# Altium footprint library AMP Footprints.PcbLib: 903 footprints (part 12 of 58)
Each footprint in its own frame and in the unit in brackets; x right, y up, seen from the top. Pads: shape width x height; smd on the part's side, far side on the other; paste and mask are expansions set on the pad; w line width, h text height; cw(c..) or ccw(c..) is an arc to the next point about the centre after c.
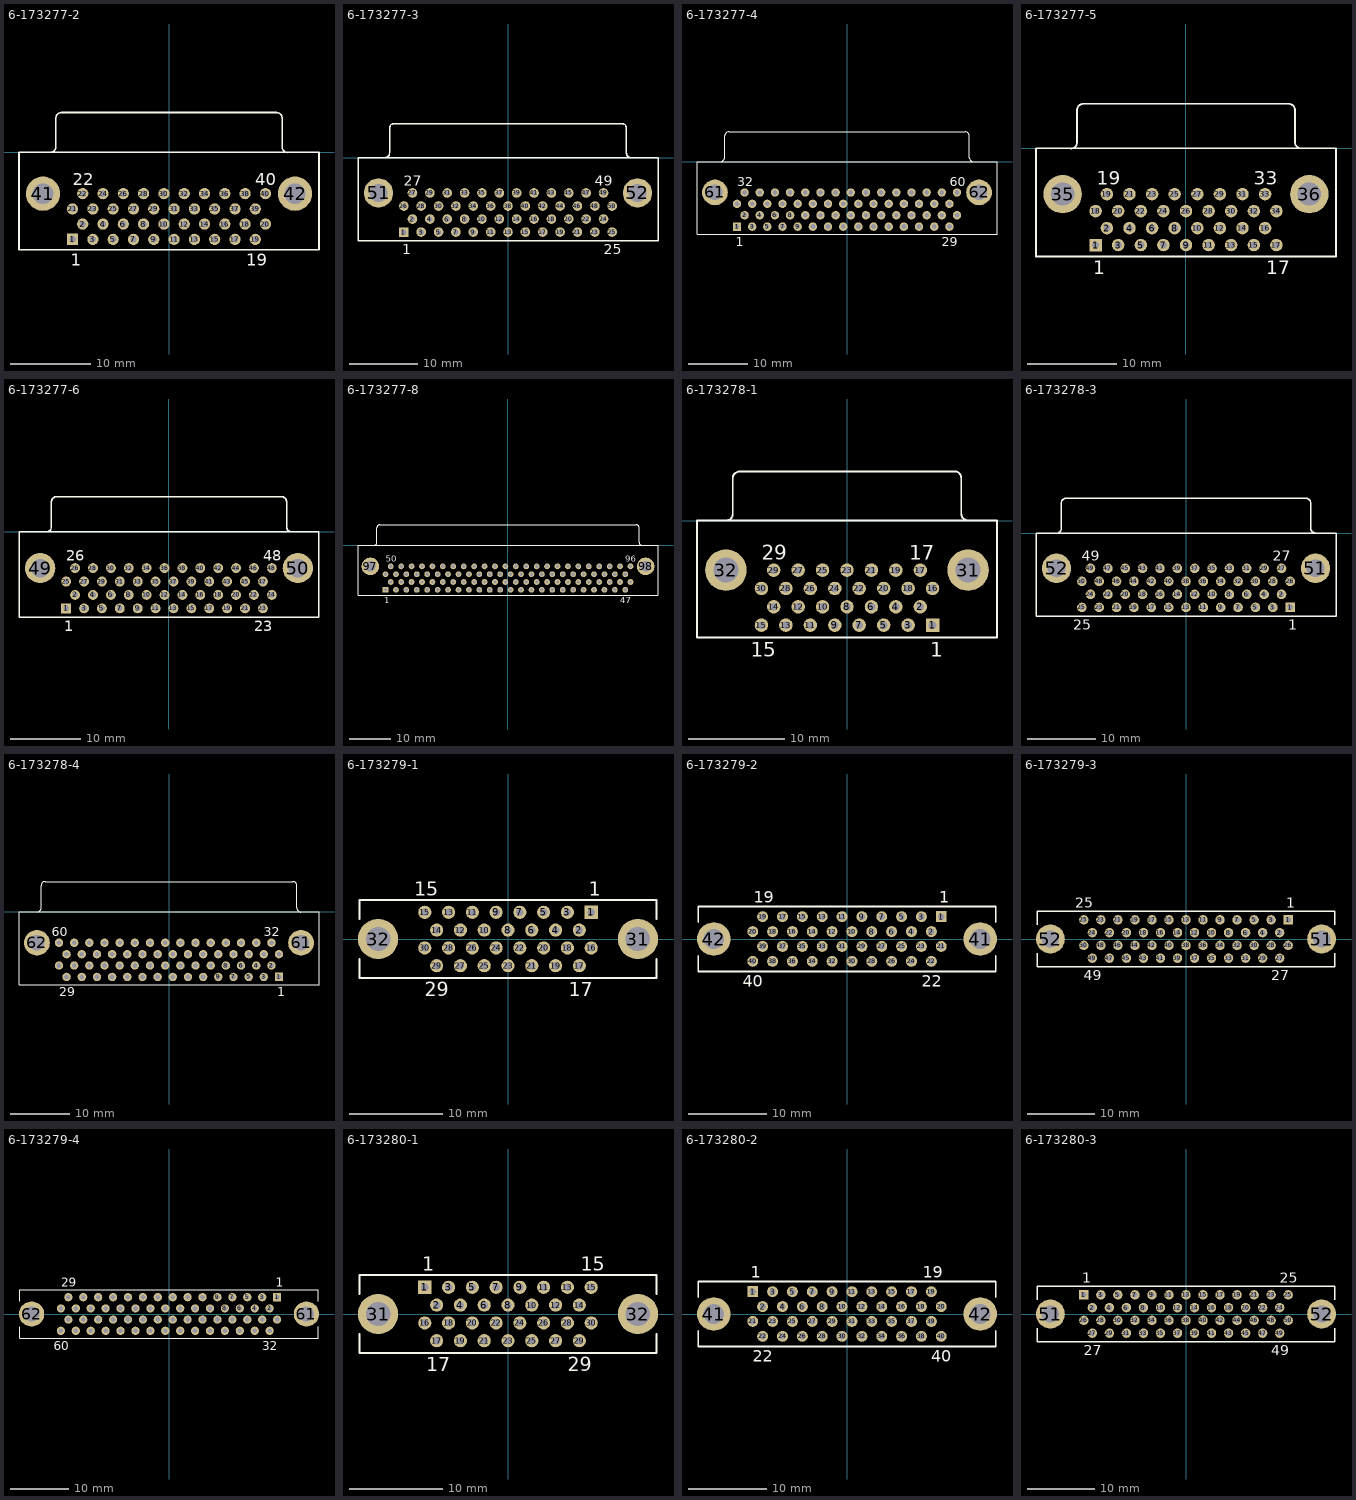
[diagram p11: the footprints below, top view; thin cyan lines are the x and y axes]

## 6-173277-2 [mm] "Connector; D Subminiature 050 Series; 40 Position; Right Angle"
height 8.1
pads (42):
  rect 1.4x1.4 hole 0.8: 1(-12.065,-10.87)
  round 1.4 hole 0.8: 2(-10.795,-8.965) 3(-9.525,-10.87) 4(-8.255,-8.965) 5(-6.985,-10.87) 6(-5.715,-8.965) 7(-4.445,-10.87) 8(-3.175,-8.965) 9(-1.905,-10.87) 10(-0.635,-8.965) 11(0.635,-10.87) 12(1.905,-8.965) 13(3.175,-10.87) 14(4.445,-8.965) 15(5.715,-10.87) 16(6.985,-8.965) 17(8.255,-10.87) 18(9.525,-8.965) 19(10.795,-10.87) 20(12.065,-8.965) 21(-12.065,-7.06) 22(-10.795,-5.155) 23(-9.525,-7.06) 24(-8.255,-5.155) 25(-6.985,-7.06) 26(-5.715,-5.155) 27(-4.445,-7.06) 28(-3.175,-5.155) 29(-1.905,-7.06) 30(-0.635,-5.155) 31(0.635,-7.06) 32(1.905,-5.155) 33(3.175,-7.06) 34(4.445,-5.155) 35(5.715,-7.06) 36(6.985,-5.155) 37(8.255,-7.06) 38(9.525,-5.155) 39(10.795,-7.06) 40(12.065,-5.155)
  round 4.3 hole 2.6: 41(-15.765,-5.155) 42(15.765,-5.155)
Top Overlay:
  lines w0.2: -14.845,0.02 ccw(c-14.845,0.715) -14.15,0.715 -14.15,4.305 cw(c-13.455,4.305) -13.455,5 ; -13.5,5 13.5,5 ; 13.455,5 cw(c13.455,4.305) 14.15,4.305 14.15,0.687 ccw(c14.845,0.687) 14.845,-0.008 ; -18.765,-12.17 -18.765,0 18.765,0 18.765,-12.17 -18.765,-12.17
  text "19" at 9.67,-14.145 h1.5
  text "1" at -12.315,-14.145 h1.5
  text "22" at -12.045,-4.08 h1.5
  text "40" at 10.815,-4.08 h1.5

## 6-173277-3 [mm] "Connector; D Subminiature 050 Series; 50 Position; Right Angle"
height 8.1
pads (52):
  rect 1.4x1.4 hole 0.8: 1(-15.24,-10.87)
  round 1.4 hole 0.8: 2(-13.97,-8.965) 3(-12.7,-10.87) 4(-11.43,-8.965) 5(-10.16,-10.87) 6(-8.89,-8.965) 7(-7.62,-10.87) 8(-6.35,-8.965) 9(-5.08,-10.87) 10(-3.81,-8.965) 11(-2.54,-10.87) 12(-1.27,-8.965) 13(0,-10.87) 14(1.27,-8.965) 15(2.54,-10.87) 16(3.81,-8.965) 17(5.08,-10.87) 18(6.35,-8.965) 19(7.62,-10.87) 20(8.89,-8.965) 21(10.16,-10.87) 22(11.43,-8.965) 23(12.7,-10.87) 24(13.97,-8.965) 25(15.24,-10.87) 26(-15.24,-7.06) 27(-13.97,-5.155) 28(-12.7,-7.06) 29(-11.43,-5.155) 30(-10.16,-7.06) 31(-8.89,-5.155) 32(-7.62,-7.06) 33(-6.35,-5.155) 34(-5.08,-7.06) 35(-3.81,-5.155) 36(-2.54,-7.06) 37(-1.27,-5.155) 38(0,-7.06) 39(1.27,-5.155) 40(2.54,-7.06) 41(3.81,-5.155) 42(5.08,-7.06) 43(6.35,-5.155) 44(7.62,-7.06) 45(8.89,-5.155) 46(10.16,-7.06) 47(11.43,-5.155) 48(12.7,-7.06) 49(13.97,-5.155) 50(15.24,-7.06)
  round 4.3 hole 2.6: 51(-18.94,-5.155) 52(18.94,-5.155)
Top Overlay:
  lines w0.2: -18.02,0.02 ccw(c-18.02,0.715) -17.325,0.715 -17.325,4.305 cw(c-16.63,4.305) -16.63,5 16.68,5 ; 16.63,5 cw(c16.63,4.305) 17.325,4.305 17.325,0.687 ccw(c18.02,0.687) 18.02,-0.008 ; -21.94,-12.17 21.94,-12.17 21.94,0 -21.94,0 -21.94,-12.17
  text "25" at 13.99,-14.145 h1.5
  text "1" at -15.49,-14.145 h1.5
  text "49" at 12.72,-4.08 h1.5
  text "27" at -15.22,-4.08 h1.5

## 6-173277-4 [mm] "Connector; D Subminiature 050 Series; 60 Position; Right Angle"
height 8.1
pads (62):
  rect 1.4x1.4 hole 0.8: 1(-18.415,-10.87)
  round 1.4 hole 0.8: 2(-17.145,-8.965) 3(-15.875,-10.87) 4(-14.605,-8.965) 5(-13.335,-10.87) 6(-12.065,-8.965) 7(-10.795,-10.87) 8(-9.525,-8.965) 9(-8.255,-10.87) 10(-6.985,-8.965) 11(-5.715,-10.87) 12(-4.445,-8.965) 13(-3.175,-10.87) 14(-1.905,-8.965) 15(-0.635,-10.87) 16(0.635,-8.965) 17(1.905,-10.87) 18(3.175,-8.965) 19(4.445,-10.87) 20(5.715,-8.965) 21(6.985,-10.87) 22(8.255,-8.965) 23(9.525,-10.87) 24(10.795,-8.965) 25(12.065,-10.87) 26(13.335,-8.965) 27(14.605,-10.87) 28(15.875,-8.965) 29(17.145,-10.87) 30(18.415,-8.965) 31(-18.415,-7.06) 32(-17.145,-5.155) 33(-15.875,-7.06) 34(-14.605,-5.155) 35(-13.335,-7.06) 36(-12.065,-5.155) 37(-10.795,-7.06) 38(-9.525,-5.155) 39(-8.255,-7.06) 40(-6.985,-5.155) 41(-5.715,-7.06) 42(-4.445,-5.155) 43(-3.175,-7.06) 44(-1.905,-5.155) 45(-0.635,-7.06) 46(0.635,-5.155) 47(1.905,-7.06) 48(3.175,-5.155) 49(4.445,-7.06) 50(5.715,-5.155) 51(6.985,-7.06) 52(8.255,-5.155) 53(9.525,-7.06) 54(10.795,-5.155) 55(12.065,-7.06) 56(13.335,-5.155) 57(14.605,-7.06) 58(15.875,-5.155) 59(17.145,-7.06) 60(18.415,-5.155)
  round 4.3 hole 2.6: 61(-22.115,-5.155) 62(22.115,-5.155)
Top Overlay:
  lines w0.2: -21.195,0.02 ccw(c-21.195,0.715) -20.5,0.715 -20.5,4.305 cw(c-19.805,4.305) -19.805,5 19.805,5 cw(c19.805,4.305) 20.5,4.305 20.5,0.687 ccw(c21.195,0.687) 21.195,-0.008 ; -25.115,-12.17 -25.115,0 25.115,0 25.115,-12.17 -25.115,-12.17
  text "32" at -18.395,-4.08 h1.5
  text "1" at -18.665,-14.145 h1.5
  text "29" at 15.895,-14.145 h1.5
  text "60" at 17.165,-4.08 h1.5

## 6-173277-5 [mm] "Connector; D Subminiature 050 Series; 34 Position; Right Angle"
height 8.1
pads (36):
  rect 1.4x1.4 hole 0.8: 1(-10.16,-10.87)
  round 1.4 hole 0.8: 2(-8.89,-8.965) 3(-7.62,-10.87) 4(-6.35,-8.965) 5(-5.08,-10.87) 6(-3.81,-8.965) 7(-2.54,-10.87) 8(-1.27,-8.965) 9(0,-10.87) 10(1.27,-8.965) 11(2.54,-10.87) 12(3.81,-8.965) 13(5.08,-10.87) 14(6.35,-8.965) 15(7.62,-10.87) 16(8.89,-8.965) 17(10.16,-10.87) 18(-10.16,-7.06) 19(-8.89,-5.155) 20(-7.62,-7.06) 21(-6.35,-5.155) 22(-5.08,-7.06) 23(-3.81,-5.155) 24(-2.54,-7.06) 25(-1.27,-5.155) 26(0,-7.06) 27(1.27,-5.155) 28(2.54,-7.06) 29(3.81,-5.155) 30(5.08,-7.06) 31(6.35,-5.155) 32(7.62,-7.06) 33(8.89,-5.155) 34(10.16,-7.06)
  round 4.3 hole 2.6: 35(-13.86,-5.155) 36(13.86,-5.155)
Top Overlay:
  lines w0.2: -12.94,-0.02 ccw(c-12.94,0.675) -12.245,0.675 -12.245,4.305 cw(c-11.55,4.305) -11.55,5 11.5,5 ; 11.55,5 cw(c11.55,4.305) 12.245,4.305 12.245,0.695 ccw(c12.94,0.695) 12.94,0 ; -16.86,-12.17 -16.86,0 16.86,0 16.86,-12.17 -16.86,-12.17
  text "17" at 9.035,-14.145 h1.5
  text "1" at -10.41,-14.145 h1.5
  text "33" at 7.64,-4.08 h1.5
  text "19" at -10.015,-4.08 h1.5

## 6-173277-6 [mm] "Connector; D Subminiature 050 Series; 48 Position; Right Angle"
height 8.1
pads (50):
  rect 1.4x1.4 hole 0.8: 1(-14.605,-10.87)
  round 1.4 hole 0.8: 2(-13.335,-8.965) 3(-12.065,-10.87) 4(-10.795,-8.965) 5(-9.525,-10.87) 6(-8.255,-8.965) 7(-6.985,-10.87) 8(-5.715,-8.965) 9(-4.445,-10.87) 10(-3.175,-8.965) 11(-1.905,-10.87) 12(-0.635,-8.965) 13(0.635,-10.87) 14(1.905,-8.965) 15(3.175,-10.87) 16(4.445,-8.965) 17(5.715,-10.87) 18(6.985,-8.965) 19(8.255,-10.87) 20(9.525,-8.965) 21(10.795,-10.87) 22(12.065,-8.965) 23(13.335,-10.87) 24(14.605,-8.965) 25(-14.605,-7.06) 26(-13.335,-5.155) 27(-12.065,-7.06) 28(-10.795,-5.155) 29(-9.525,-7.06) 30(-8.255,-5.155) 31(-6.985,-7.06) 32(-5.715,-5.155) 33(-4.445,-7.06) 34(-3.175,-5.155) 35(-1.905,-7.06) 36(-0.635,-5.155) 37(0.635,-7.06) 38(1.905,-5.155) 39(3.175,-7.06) 40(4.445,-5.155) 41(5.715,-7.06) 42(6.985,-5.155) 43(8.255,-7.06) 44(9.525,-5.155) 45(10.795,-7.06) 46(12.065,-5.155) 47(13.335,-7.06) 48(14.605,-5.155)
  round 4.3 hole 2.6: 49(-18.305,-5.155) 50(18.305,-5.155)
Top Overlay:
  lines w0.2: -17.385,0.002 ccw(c-17.385,0.697) -16.69,0.697 -16.69,4.305 cw(c-15.995,4.305) -15.995,5 ; -16,5 16,5 ; 15.995,5 cw(c15.995,4.305) 16.69,4.305 16.69,0.717 ccw(c17.385,0.717) 17.385,0.022 ; -21.305,-12.17 21.305,-12.17 21.305,0 -21.305,0 -21.305,-12.17
  text "26" at -14.585,-4.08 h1.5
  text "48" at 13.355,-4.08 h1.5
  text "1" at -14.855,-14.145 h1.5
  text "23" at 12.085,-14.145 h1.5

## 6-173277-8 [mm] "Connector; D Subminiature 050 Series; 96 Position; Right Angle"
height 8.1
pads (98):
  rect 1.4x1.4 hole 0.8: 1(-29.845,-10.87)
  round 1.4 hole 0.8: 2(-28.575,-8.965) 3(-27.305,-10.87) 4(-26.035,-8.965) 5(-24.765,-10.87) 6(-23.495,-8.965) 7(-22.225,-10.87) 8(-20.955,-8.965) 9(-19.685,-10.87) 10(-18.415,-8.965) 11(-17.145,-10.87) 12(-15.875,-8.965) 13(-14.605,-10.87) 14(-13.335,-8.965) 15(-12.065,-10.87) 16(-10.795,-8.965) 17(-9.525,-10.87) 18(-8.255,-8.965) 19(-6.985,-10.87) 20(-5.715,-8.965) 21(-4.445,-10.87) 22(-3.175,-8.965) 23(-1.905,-10.87) 24(-0.635,-8.965) 25(0.635,-10.87) 26(1.905,-8.965) 27(3.175,-10.87) 28(4.445,-8.965) 29(5.715,-10.87) 30(6.985,-8.965) 31(8.255,-10.87) 32(9.525,-8.965) 33(10.795,-10.87) 34(12.065,-8.965) 35(13.335,-10.87) 36(14.605,-8.965) 37(15.875,-10.87) 38(17.145,-8.965) 39(18.415,-10.87) 40(19.685,-8.965) 41(20.955,-10.87) 42(22.225,-8.965) 43(23.495,-10.87) 44(24.765,-8.965) 45(26.035,-10.87) 46(27.305,-8.965) 47(28.575,-10.87) 48(29.845,-8.965) 49(-29.845,-7.06) 50(-28.575,-5.155) 51(-27.305,-7.06) 52(-26.035,-5.155) 53(-24.765,-7.06) 54(-23.495,-5.155) 55(-22.225,-7.06) 56(-20.955,-5.155) 57(-19.685,-7.06) 58(-18.415,-5.155) 59(-17.145,-7.06) 60(-15.875,-5.155) 61(-14.605,-7.06) 62(-13.335,-5.155) 63(-12.065,-7.06) 64(-10.795,-5.155) 65(-9.525,-7.06) 66(-8.255,-5.155) 67(-6.985,-7.06) 68(-5.715,-5.155) 69(-4.445,-7.06) 70(-3.175,-5.155) 71(-1.905,-7.06) 72(-0.635,-5.155) 73(0.635,-7.06) 74(1.905,-5.155) 75(3.175,-7.06) 76(4.445,-5.155) 77(5.715,-7.06) 78(6.985,-5.155) 79(8.255,-7.06) 80(9.525,-5.155) 81(10.795,-7.06) 82(12.065,-5.155) 83(13.335,-7.06) 84(14.605,-5.155) 85(15.875,-7.06) 86(17.145,-5.155) 87(18.415,-7.06) 88(19.685,-5.155) 89(20.955,-7.06) 90(22.225,-5.155) 91(23.495,-7.06) 92(24.765,-5.155) 93(26.035,-7.06) 94(27.305,-5.155) 95(28.575,-7.06) 96(29.845,-5.155)
  round 4.3 hole 2.6: 97(-33.545,-5.155) 98(33.545,-5.155)
Top Overlay:
  lines w0.2: -32.625,0.002 ccw(c-32.625,0.697) -31.93,0.697 -31.93,4.305 cw(c-31.235,4.305) -31.235,5 31.3,5 ; 31.235,5 cw(c31.235,4.305) 31.93,4.305 31.93,0.7 ccw(c32.625,0.7) 32.625,0.005 ; -36.545,-12.17 -36.545,0 36.545,0 36.545,-12.17 -36.545,-12.17
  text "50" at -29.825,-4.08 h1.5
  text "96" at 28.595,-4.08 h1.5
  text "47" at 27.325,-14.145 h1.5
  text "1" at -30.095,-14.145 h1.5

## 6-173278-1 [mm] "Connector; D Subminiature 050 Series; 30 Position; Right Angle"
height 8.1
pads (32):
  rect 1.4x1.4 hole 0.8: 1(8.89,-10.87)
  round 1.4 hole 0.8: 2(7.62,-8.965) 3(6.35,-10.87) 4(5.08,-8.965) 5(3.81,-10.87) 6(2.54,-8.965) 7(1.27,-10.87) 8(0,-8.965) 9(-1.27,-10.87) 10(-2.54,-8.965) 11(-3.81,-10.87) 12(-5.08,-8.965) 13(-6.35,-10.87) 14(-7.62,-8.965) 15(-8.89,-10.87) 16(8.89,-7.06) 17(7.62,-5.155) 18(6.35,-7.06) 19(5.08,-5.155) 20(3.81,-7.06) 21(2.54,-5.155) 22(1.27,-7.06) 23(0,-5.155) 24(-1.27,-7.06) 25(-2.54,-5.155) 26(-3.81,-7.06) 27(-5.08,-5.155) 28(-6.35,-7.06) 29(-7.62,-5.155) 30(-8.89,-7.06)
  round 4.3 hole 2.6: 31(12.59,-5.155) 32(-12.59,-5.155)
Top Overlay:
  lines w0.2: -12.57,0 ccw(c-12.57,0.695) -11.875,0.695 -11.875,4.395 cw(c-11.18,4.395) -11.18,5.09 ; -11.18,5.1 11.185,5.1 ; 11.18,5.11 cw(c11.18,4.415) 11.875,4.415 11.875,0.715 ccw(c12.57,0.715) 12.57,0.02 ; -15.59,-12.17 15.59,-12.17 15.59,0 -15.59,0 -15.59,-12.17
  text "15" at -10.015,-14.145 h1.5
  text "1" at 8.64,-14.145 h1.5
  text "29" at -8.87,-4.08 h1.5
  text "17" at 6.495,-4.08 h1.5

## 6-173278-3 [mm] "Connector; D Subminiature 050 Series; 50 Position; Right Angle"
height 8.1
pads (52):
  rect 1.4x1.4 hole 0.8: 1(15.24,-10.87)
  round 1.4 hole 0.8: 2(13.97,-8.965) 3(12.7,-10.87) 4(11.43,-8.965) 5(10.16,-10.87) 6(8.89,-8.965) 7(7.62,-10.87) 8(6.35,-8.965) 9(5.08,-10.87) 10(3.81,-8.965) 11(2.54,-10.87) 12(1.27,-8.965) 13(0,-10.87) 14(-1.27,-8.965) 15(-2.54,-10.87) 16(-3.81,-8.965) 17(-5.08,-10.87) 18(-6.35,-8.965) 19(-7.62,-10.87) 20(-8.89,-8.965) 21(-10.16,-10.87) 22(-11.43,-8.965) 23(-12.7,-10.87) 24(-13.97,-8.965) 25(-15.24,-10.87) 26(15.24,-7.06) 27(13.97,-5.155) 28(12.7,-7.06) 29(11.43,-5.155) 30(10.16,-7.06) 31(8.89,-5.155) 32(7.62,-7.06) 33(6.35,-5.155) 34(5.08,-7.06) 35(3.81,-5.155) 36(2.54,-7.06) 37(1.27,-5.155) 38(0,-7.06) 39(-1.27,-5.155) 40(-2.54,-7.06) 41(-3.81,-5.155) 42(-5.08,-7.06) 43(-6.35,-5.155) 44(-7.62,-7.06) 45(-8.89,-5.155) 46(-10.16,-7.06) 47(-11.43,-5.155) 48(-12.7,-7.06) 49(-13.97,-5.155) 50(-15.24,-7.06)
  round 4.3 hole 2.6: 51(18.94,-5.155) 52(-18.94,-5.155)
Top Overlay:
  lines w0.2: -18.92,-0.008 ccw(c-18.92,0.687) -18.225,0.687 -18.225,4.42 ; -18.22,4.405 cw(c-17.525,4.405) -17.525,5.1 17.525,5.1 cw(c17.525,4.405) 18.22,4.405 ; 18.225,0.687 18.225,4.42 ; 18.225,0.715 ccw(c18.92,0.715) 18.92,0.02 ; -21.94,-12.17 -21.94,0 21.94,0 21.94,-12.17 -21.94,-12.17
  text "27" at 12.72,-4.08 h1.5
  text "49" at -15.22,-4.08 h1.5
  text "1" at 14.99,-14.145 h1.5
  text "25" at -16.49,-14.145 h1.5

## 6-173278-4 [mm] "Connector; D Subminiature 050 Series; 60 Position; Right Angle"
height 8.1
pads (62):
  rect 1.4x1.4 hole 0.8: 1(18.415,-10.87)
  round 1.4 hole 0.8: 2(17.145,-8.965) 3(15.875,-10.87) 4(14.605,-8.965) 5(13.335,-10.87) 6(12.065,-8.965) 7(10.795,-10.87) 8(9.525,-8.965) 9(8.255,-10.87) 10(6.985,-8.965) 11(5.715,-10.87) 12(4.445,-8.965) 13(3.175,-10.87) 14(1.905,-8.965) 15(0.635,-10.87) 16(-0.635,-8.965) 17(-1.905,-10.87) 18(-3.175,-8.965) 19(-4.445,-10.87) 20(-5.715,-8.965) 21(-6.985,-10.87) 22(-8.255,-8.965) 23(-9.525,-10.87) 24(-10.795,-8.965) 25(-12.065,-10.87) 26(-13.335,-8.965) 27(-14.605,-10.87) 28(-15.875,-8.965) 29(-17.145,-10.87) 30(-18.415,-8.965) 31(18.415,-7.06) 32(17.145,-5.155) 33(15.875,-7.06) 34(14.605,-5.155) 35(13.335,-7.06) 36(12.065,-5.155) 37(10.795,-7.06) 38(9.525,-5.155) 39(8.255,-7.06) 40(6.985,-5.155) 41(5.715,-7.06) 42(4.445,-5.155) 43(3.175,-7.06) 44(1.905,-5.155) 45(0.635,-7.06) 46(-0.635,-5.155) 47(-1.905,-7.06) 48(-3.175,-5.155) 49(-4.445,-7.06) 50(-5.715,-5.155) 51(-6.985,-7.06) 52(-8.255,-5.155) 53(-9.525,-7.06) 54(-10.795,-5.155) 55(-12.065,-7.06) 56(-13.335,-5.155) 57(-14.605,-7.06) 58(-15.875,-5.155) 59(-17.145,-7.06) 60(-18.415,-5.155)
  round 4.3 hole 2.6: 61(22.115,-5.155) 62(-22.115,-5.155)
Top Overlay:
  lines w0.2: -22.095,-0.008 ccw(c-22.095,0.687) -21.4,0.687 -21.4,4.405 cw(c-20.705,4.405) -20.705,5.1 20.8,5.1 ; 20.705,5.1 cw(c20.705,4.405) 21.4,4.405 21.4,0.67 ccw(c22.095,0.67) 22.095,-0.025 ; -25.115,-12.17 -25.115,0 25.115,0 25.115,-12.17 -25.115,-12.17
  text "32" at 15.895,-4.08 h1.5
  text "60" at -19.665,-4.08 h1.5
  text "29" at -18.395,-14.145 h1.5
  text "1" at 18.165,-14.145 h1.5

## 6-173279-1 [mm] "Connector; D Subminiature 050 Series; 30 Position; Vertical"
height 7.7
pads (32):
  rect 1.4x1.4 hole 0.8: 1(8.89,2.857)
  round 1.4 hole 0.8: 2(7.62,0.953) 3(6.35,2.857) 4(5.08,0.953) 5(3.81,2.857) 6(2.54,0.953) 7(1.27,2.857) 8(0,0.953) 9(-1.27,2.857) 10(-2.54,0.953) 11(-3.81,2.857) 12(-5.08,0.953) 13(-6.35,2.857) 14(-7.62,0.953) 15(-8.89,2.857) 16(8.89,-0.953) 17(7.62,-2.857) 18(6.35,-0.953) 19(5.08,-2.857) 20(3.81,-0.953) 21(2.54,-2.857) 22(1.27,-0.953) 23(0,-2.857) 24(-1.27,-0.953) 25(-2.54,-2.857) 26(-3.81,-0.953) 27(-5.08,-2.857) 28(-6.35,-0.953) 29(-7.62,-2.857) 30(-8.89,-0.953)
  round 4.3 hole 2.6: 31(13.875,0) 32(-13.875,0)
Top Overlay:
  lines w0.2: -15.875,-2.146 -15.875,-4.157 15.875,-4.157 15.875,-2.146 ; -15.875,2.146 -15.875,4.157 15.875,4.157 15.875,2.146
  text "17" at 6.495,-6.132 h1.5
  text "29" at -8.87,-6.132 h1.5
  text "15" at -10.015,4.633 h1.5
  text "1" at 8.64,4.633 h1.5

## 6-173279-2 [mm] "Connector; D Subminiature 050 Series; 40 Position; Vertical"
height 7.7
pads (42):
  rect 1.4x1.4 hole 0.8: 1(12.065,2.857)
  round 1.4 hole 0.8: 2(10.795,0.953) 3(9.525,2.857) 4(8.255,0.953) 5(6.985,2.857) 6(5.715,0.953) 7(4.445,2.857) 8(3.175,0.953) 9(1.905,2.857) 10(0.635,0.953) 11(-0.635,2.857) 12(-1.905,0.953) 13(-3.175,2.857) 14(-4.445,0.953) 15(-5.715,2.857) 16(-6.985,0.953) 17(-8.255,2.857) 18(-9.525,0.953) 19(-10.795,2.857) 20(-12.065,0.953) 21(12.065,-0.953) 22(10.795,-2.857) 23(9.525,-0.953) 24(8.255,-2.857) 25(6.985,-0.953) 26(5.715,-2.857) 27(4.445,-0.953) 28(3.175,-2.857) 29(1.905,-0.953) 30(0.635,-2.857) 31(-0.635,-0.953) 32(-1.905,-2.857) 33(-3.175,-0.953) 34(-4.445,-2.857) 35(-5.715,-0.953) 36(-6.985,-2.857) 37(-8.255,-0.953) 38(-9.525,-2.857) 39(-10.795,-0.953) 40(-12.065,-2.857)
  round 4.3 hole 2.6: 41(17.05,0) 42(-17.05,0)
Top Overlay:
  lines w0.2: -19.05,-2.146 -19.05,-4.157 19.05,-4.157 19.05,-2.146 ; -19.05,2.146 -19.05,4.157 19.05,4.157 19.05,2.146
  text "22" at 9.545,-6.132 h1.5
  text "40" at -13.315,-6.132 h1.5
  text "19" at -11.92,4.633 h1.5
  text "1" at 11.815,4.633 h1.5

## 6-173279-3 [mm] "Connector; D Subminiature 050 Series; 50 Position; Vertical"
height 7.7
pads (52):
  rect 1.4x1.4 hole 0.8: 1(15.24,2.857)
  round 1.4 hole 0.8: 2(13.97,0.953) 3(12.7,2.857) 4(11.43,0.953) 5(10.16,2.857) 6(8.89,0.953) 7(7.62,2.857) 8(6.35,0.953) 9(5.08,2.857) 10(3.81,0.953) 11(2.54,2.857) 12(1.27,0.953) 13(0,2.857) 14(-1.27,0.953) 15(-2.54,2.857) 16(-3.81,0.953) 17(-5.08,2.857) 18(-6.35,0.953) 19(-7.62,2.857) 20(-8.89,0.953) 21(-10.16,2.857) 22(-11.43,0.953) 23(-12.7,2.857) 24(-13.97,0.953) 25(-15.24,2.857) 26(15.24,-0.953) 27(13.97,-2.857) 28(12.7,-0.953) 29(11.43,-2.857) 30(10.16,-0.953) 31(8.89,-2.857) 32(7.62,-0.953) 33(6.35,-2.857) 34(5.08,-0.953) 35(3.81,-2.857) 36(2.54,-0.953) 37(1.27,-2.857) 38(0,-0.953) 39(-1.27,-2.857) 40(-2.54,-0.953) 41(-3.81,-2.857) 42(-5.08,-0.953) 43(-6.35,-2.857) 44(-7.62,-0.953) 45(-8.89,-2.857) 46(-10.16,-0.953) 47(-11.43,-2.857) 48(-12.7,-0.953) 49(-13.97,-2.857) 50(-15.24,-0.953)
  round 4.3 hole 2.6: 51(20.225,0) 52(-20.225,0)
Top Overlay:
  lines w0.2: -22.225,-2.146 -22.225,-4.157 22.225,-4.157 22.225,-2.146 ; -22.225,2.146 -22.225,4.157 22.225,4.157 22.225,2.146
  text "27" at 12.72,-6.132 h1.5
  text "49" at -15.22,-6.132 h1.5
  text "25" at -16.49,4.633 h1.5
  text "1" at 14.99,4.633 h1.5

## 6-173279-4 [mm] "Connector; D Subminiature 050 Series; 60 Position; Vertical"
height 7.7
pads (62):
  rect 1.4x1.4 hole 0.8: 1(18.415,2.857)
  round 1.4 hole 0.8: 2(17.145,0.953) 3(15.875,2.857) 4(14.605,0.953) 5(13.335,2.857) 6(12.065,0.953) 7(10.795,2.857) 8(9.525,0.953) 9(8.255,2.857) 10(6.985,0.953) 11(5.715,2.857) 12(4.445,0.953) 13(3.175,2.857) 14(1.905,0.953) 15(0.635,2.857) 16(-0.635,0.953) 17(-1.905,2.857) 18(-3.175,0.953) 19(-4.445,2.857) 20(-5.715,0.953) 21(-6.985,2.857) 22(-8.255,0.953) 23(-9.525,2.857) 24(-10.795,0.953) 25(-12.065,2.857) 26(-13.335,0.953) 27(-14.605,2.857) 28(-15.875,0.953) 29(-17.145,2.857) 30(-18.415,0.953) 31(18.415,-0.953) 32(17.145,-2.857) 33(15.875,-0.953) 34(14.605,-2.857) 35(13.335,-0.953) 36(12.065,-2.857) 37(10.795,-0.953) 38(9.525,-2.857) 39(8.255,-0.953) 40(6.985,-2.857) 41(5.715,-0.953) 42(4.445,-2.857) 43(3.175,-0.953) 44(1.905,-2.857) 45(0.635,-0.953) 46(-0.635,-2.857) 47(-1.905,-0.953) 48(-3.175,-2.857) 49(-4.445,-0.953) 50(-5.715,-2.857) 51(-6.985,-0.953) 52(-8.255,-2.857) 53(-9.525,-0.953) 54(-10.795,-2.857) 55(-12.065,-0.953) 56(-13.335,-2.857) 57(-14.605,-0.953) 58(-15.875,-2.857) 59(-17.145,-0.953) 60(-18.415,-2.857)
  round 4.3 hole 2.6: 61(23.4,0) 62(-23.4,0)
Top Overlay:
  lines w0.2: -25.4,-2.146 -25.4,-4.157 25.4,-4.157 25.4,-2.146 ; -25.4,2.146 -25.4,4.157 25.4,4.157 25.4,2.146
  text "1" at 18.165,4.633 h1.5
  text "29" at -18.395,4.633 h1.5
  text "60" at -19.665,-6.132 h1.5
  text "32" at 15.895,-6.132 h1.5

## 6-173280-1 [mm] "Connector; D Subminiature 050 Series; 30 Position; Vertical"
height 9.3
pads (32):
  rect 1.4x1.4 hole 0.8: 1(-8.89,2.857)
  round 1.4 hole 0.8: 2(-7.62,0.953) 3(-6.35,2.857) 4(-5.08,0.953) 5(-3.81,2.857) 6(-2.54,0.953) 7(-1.27,2.857) 8(0,0.953) 9(1.27,2.857) 10(2.54,0.953) 11(3.81,2.857) 12(5.08,0.953) 13(6.35,2.857) 14(7.62,0.953) 15(8.89,2.857) 16(-8.89,-0.953) 17(-7.62,-2.857) 18(-6.35,-0.953) 19(-5.08,-2.857) 20(-3.81,-0.953) 21(-2.54,-2.857) 22(-1.27,-0.953) 23(0,-2.857) 24(1.27,-0.953) 25(2.54,-2.857) 26(3.81,-0.953) 27(5.08,-2.857) 28(6.35,-0.953) 29(7.62,-2.857) 30(8.89,-0.953)
  round 4.3 hole 2.6: 31(-13.875,0) 32(13.875,0)
Top Overlay:
  lines w0.2: -15.875,-2.146 -15.875,-4.157 15.875,-4.157 15.875,-2.146 ; -15.875,2.146 -15.875,4.157 15.875,4.157 15.875,2.146
  text "17" at -8.745,-6.132 h1.5
  text "29" at 6.37,-6.132 h1.5
  text "15" at 7.765,4.633 h1.5
  text "1" at -9.14,4.633 h1.5

## 6-173280-2 [mm] "Connector; D Subminiature 050 Series; 40 Position; Vertical"
height 9.3
pads (42):
  rect 1.4x1.4 hole 0.8: 1(-12.065,2.857)
  round 1.4 hole 0.8: 2(-10.795,0.953) 3(-9.525,2.857) 4(-8.255,0.953) 5(-6.985,2.857) 6(-5.715,0.953) 7(-4.445,2.857) 8(-3.175,0.953) 9(-1.905,2.857) 10(-0.635,0.953) 11(0.635,2.857) 12(1.905,0.953) 13(3.175,2.857) 14(4.445,0.953) 15(5.715,2.857) 16(6.985,0.953) 17(8.255,2.857) 18(9.525,0.953) 19(10.795,2.857) 20(12.065,0.953) 21(-12.065,-0.953) 22(-10.795,-2.857) 23(-9.525,-0.953) 24(-8.255,-2.857) 25(-6.985,-0.953) 26(-5.715,-2.857) 27(-4.445,-0.953) 28(-3.175,-2.857) 29(-1.905,-0.953) 30(-0.635,-2.857) 31(0.635,-0.953) 32(1.905,-2.857) 33(3.175,-0.953) 34(4.445,-2.857) 35(5.715,-0.953) 36(6.985,-2.857) 37(8.255,-0.953) 38(9.525,-2.857) 39(10.795,-0.953) 40(12.065,-2.857)
  round 4.3 hole 2.6: 41(-17.05,0) 42(17.05,0)
Top Overlay:
  lines w0.2: -19.05,-2.146 -19.05,-4.157 19.05,-4.157 19.05,-2.146 ; -19.05,2.146 -19.05,4.157 19.05,4.157 19.05,2.146
  text "1" at -12.315,4.633 h1.5
  text "22" at -12.045,-6.132 h1.5
  text "40" at 10.815,-6.132 h1.5
  text "19" at 9.67,4.633 h1.5

## 6-173280-3 [mm] "Connector; D Subminiature 050 Series; 50 Position; Vertical"
height 9.3
pads (52):
  rect 1.4x1.4 hole 0.8: 1(-15.24,2.857)
  round 1.4 hole 0.8: 2(-13.97,0.953) 3(-12.7,2.857) 4(-11.43,0.953) 5(-10.16,2.857) 6(-8.89,0.953) 7(-7.62,2.857) 8(-6.35,0.953) 9(-5.08,2.857) 10(-3.81,0.953) 11(-2.54,2.857) 12(-1.27,0.953) 13(0,2.857) 14(1.27,0.953) 15(2.54,2.857) 16(3.81,0.953) 17(5.08,2.857) 18(6.35,0.953) 19(7.62,2.857) 20(8.89,0.953) 21(10.16,2.857) 22(11.43,0.953) 23(12.7,2.857) 24(13.97,0.953) 25(15.24,2.857) 26(-15.24,-0.953) 27(-13.97,-2.857) 28(-12.7,-0.953) 29(-11.43,-2.857) 30(-10.16,-0.953) 31(-8.89,-2.857) 32(-7.62,-0.953) 33(-6.35,-2.857) 34(-5.08,-0.953) 35(-3.81,-2.857) 36(-2.54,-0.953) 37(-1.27,-2.857) 38(0,-0.953) 39(1.27,-2.857) 40(2.54,-0.953) 41(3.81,-2.857) 42(5.08,-0.953) 43(6.35,-2.857) 44(7.62,-0.953) 45(8.89,-2.857) 46(10.16,-0.953) 47(11.43,-2.857) 48(12.7,-0.953) 49(13.97,-2.857) 50(15.24,-0.953)
  round 4.3 hole 2.6: 51(-20.225,0) 52(20.225,0)
Top Overlay:
  lines w0.2: -22.225,-2.146 -22.225,-4.157 22.225,-4.157 22.225,-2.146 ; -22.225,2.146 -22.225,4.157 22.225,4.157 22.225,2.146
  text "27" at -15.22,-6.132 h1.5
  text "49" at 12.72,-6.132 h1.5
  text "25" at 13.99,4.633 h1.5
  text "1" at -15.49,4.633 h1.5